# EAGLE library part 1.25-10PWT (library CONNECTORs)
1x10P GH 10P 1 1.25mm 10 -25℃~+85℃ 1A Surface Mount，Right Angle SMD,P=1.25mm,Surface Mount，Right Angle Wire To Board / Wire To Wire Connector ROHS
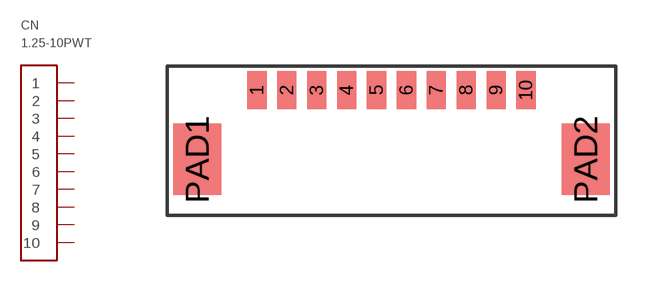
[diagram p90: symbol with the pads of 1.25-10PWT; footprint 1.25-10PWT]

Designator prefix CN

## 1.25-10PWT (HEIGHT: 3.6; LCSC: C5340797; PRICE_PER: 0.035; VALUE: JST GH 10 Pin)  [1.25-10PWT]
1  1
2  2
3  3
4  4
5  5
6  6
7  7
8  8
9  9
10  10

## Footprint 1.25-10PWT (pad centres in mm)
smd 0.8 x 1.6: 1 -5.625,2.125; 2 -4.375,2.125; 3 -3.125,2.125; 4 -1.875,2.125; 5 -0.625,2.125; 6 0.625,2.125; 7 1.875,2.125; 8 3.125,2.125; 9 4.375,2.125; 10 5.625,2.125
smd 2 x 3: PAD1 -8.125,-0.775; PAD2 8.125,-0.775